# EAGLE library part KHHD006A0A (library wolfi)
DC-DC Converter Power Modules VIN 18-75Vdc VOUT 5V IOUT 6A VISO 2250V
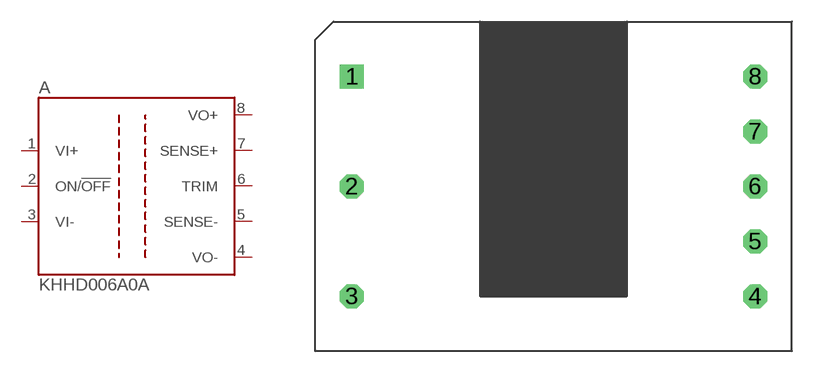
[diagram p25: symbol with the pads of KHHD006A0A; footprint KHHD006A0A]

Designator prefix A

## KHHD006A0A  [KHHD006A0A]
1  VI+  sup
2  ON/!OFF  pas
3  VI-  sup
4  VO-  sup
5  SENSE-  pas
6  TRIM  pas
7  SENSE+  pas
8  VO+  sup

## Footprint KHHD006A0A (pad centres in mm)
drill 1 pad 1.676 square: 1 0,7.62
drill 1 pad 1.676 octagon: 2 0,0; 3 0,-7.62; 4 27.94,-7.62; 5 27.94,-3.81; 6 27.94,0; 7 27.94,3.81; 8 27.94,7.62